# Altium schematic symbol library Power.SchLib: 9 symbols
Pins are listed as number, name and electrical type; pins without a type are passive.

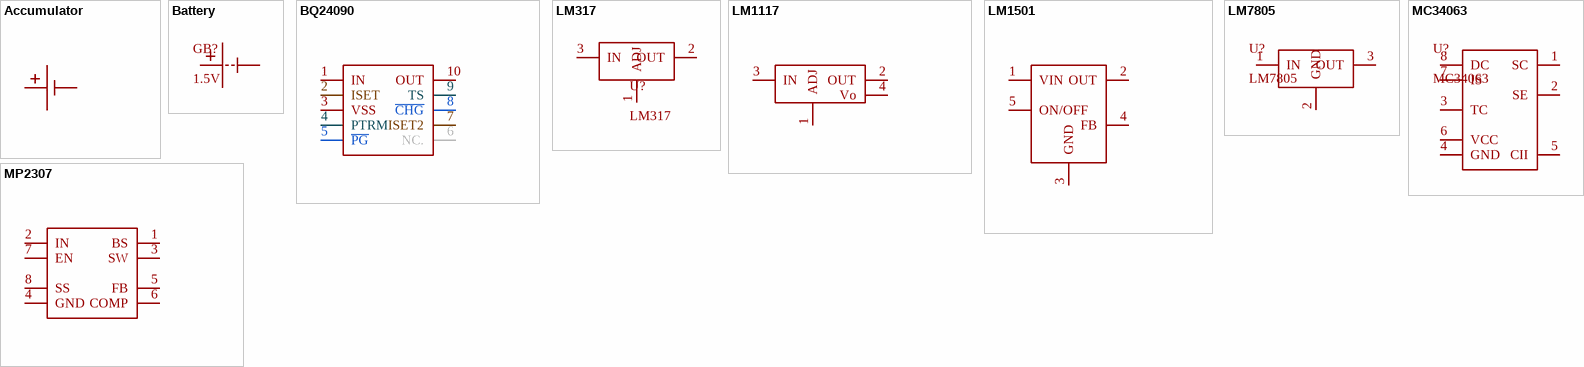
[diagram p0: symbols Accumulator to MP2307]

## Accumulator
designator GA?, comment 3.7V
Name: LP; Value: 3.7V; Case: DNP; Part Number: N/A
footprint _2-PAD-1L
footprint _2-PAD-TH
footprint CR2032 (Battery Holder Compact)
footprint CR1616-SMD
pins: 1, 2 +

## Battery
designator GB?, comment 1.5V
Value: 1.5V; Case: DNP; Part Number: N/A
footprint CR1616-SMD
footprint _2-PAD-1L
footprint _2-PAD-TH
footprint CR2032 (Battery Holder Compact)
pins: 1 +, 2

## BQ24090
designator U?
Name: BQ24090; Case: DNP; Part Number: N/A
footprint HVSSOP10
pins: 1 IN, 2 ISET, 3 VSS, 4 PTRM, 5 ~{PG}, 6 NC., 7 ISET2, 8 ~{CHG}, 9 TS, 10 OUT

## LM317
designator U?
3-Terminal Adjustable Regulator; Name: LM317; Case: DNP; Part Number: N/A
footprint TO-220-V
footprint TO-220-H
footprint SOT-223
pins: 1 ADJ, 2 OUT, 3 IN

## LM1117
designator U?, comment LM1117MPX-3.3
800-mA, Low-Dropout Linear Regulator; Name: LM1117MPX-3.3; Case: DNP; Part Number: N/A
footprint SOT-223
footprint TO-220-V
footprint TO-220-H
footprint SOT-223-24
pins: 1 ADJ, 2 OUT, 3 IN, 4 Vo

## LM1501
designator U?
5A, 25V, 150KHz (300KHz), Step-Down Switching Regulator; Name: LM1501; Case: DNP; Part Number: N/A
pins: 1 VIN, 2 OUT, 3 GND, 4 FB, 5 ON/OFF

## LM7805
designator U?
Positive voltage regulator; Name: LM7805; Case: DNP; Part Number: N/A
footprint TO-220-H
footprint TO-220-V
footprint D2PAK-123
footprint DPAK-123 (TO-252)
pins: 1 IN, 2 GND, 3 OUT

## MC34063
designator U?
Name: MC34063; Case: DNP; Part Number: N/A
footprint SOIC8
pins: 1 SC, 2 SE, 3 TC, 4 GND, 5 CII, 6 VCC, 7 IS, 8 DC

## MP2307
designator U?
3A, 23V, 340KHz Synchronous Rectified Step-Down Converter; Name: MP2307; Case: DNP; Part Number: N/A
footprint SOIC8N
pins: 1 BS, 2 IN, 3 SW, 4 GND, 5 FB, 6 COMP, 7 EN, 8 SS